# Altium footprint library SD card.PcbLib: 2 footprints
Each footprint in its own frame and in the unit in brackets; x right, y up, seen from the top. Pads: shape width x height; smd on the part's side, far side on the other; paste and mask are expansions set on the pad; w line width, h text height; cw(c..) or ccw(c..) is an arc to the next point about the centre after c.
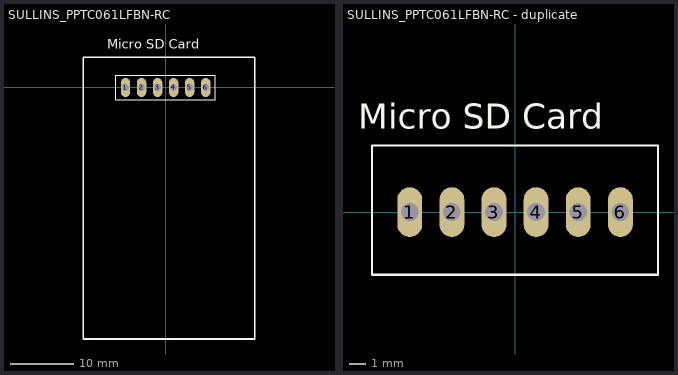
[diagram p0: the footprints below, top view; thin cyan lines are the x and y axes]

## SULLINS_PPTC061LFBN-RC [mm]
height 8.5
pads (6):
  oval 1.5x3 hole 1.07: 1(-6.35,0) 2(-3.81,0) 3(-1.27,0) 4(1.27,0) 5(3.81,0) 6(6.35,0)
Top Overlay:
  lines w0.127: -7.87,-1.95 -7.87,1.92 7.87,1.92 7.87,-1.95 -7.87,-1.95
  lines w0.254: -13.05,4.73 -13.05,-39.83 14.13,-39.83 14.13,4.76 -13.05,4.76
  text "Micro SD Card" at -9.26,6.15 h1.52
3D body "sd card.x_t": height 14.13, standoff -3.2, extent -11.938,-38.501 12.062,3.299

## SULLINS_PPTC061LFBN-RC - duplicate [mm]
height 8.5
pads (6):
  oval 1.5x3 hole 1.07: 1(-6.35,0) 2(-3.81,0) 3(-1.27,0) 4(1.27,0) 5(3.81,0) 6(6.35,0)
Top Overlay:
  lines w0.127: -8.63,-3.78 8.62,-3.78 8.62,4.02 -8.63,4.02 -8.63,-3.78
  text "Micro SD Card" at -9.47,5.04 h1.52
3D body "PPTC061LFBNRC--3DModel-STEP-269445.STEP": height 8.51, standoff -3.2, extent -7.838,-1.26 7.91,1.28